# Altium footprint library 691 244 810 0xx.PcbLib: 3 footprints
Each footprint in its own frame and in the unit in brackets; x right, y up, seen from the top. Pads: shape width x height; smd on the part's side, far side on the other; paste and mask are expansions set on the pad; w line width, h text height; cw(c..) or ccw(c..) is an arc to the next point about the centre after c.
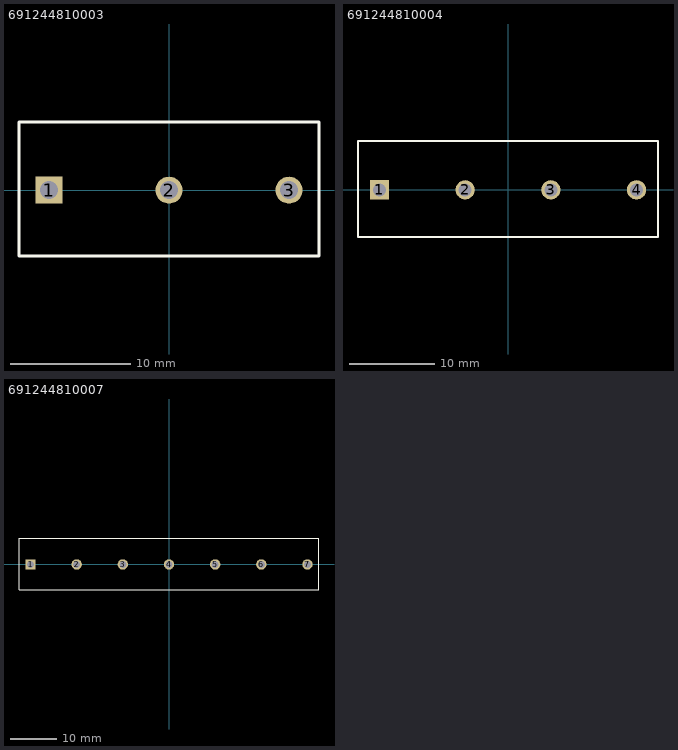
[diagram p0: the footprints below, top view; thin cyan lines are the x and y axes]

## 691244810003 [mm] "Serie 2448 - 10.00 mm _ 3 pins"
height 18
pads (3):
  rect 2.25x2.25 hole 1.5: 1(-10,0)
  round 2.25 hole 1.5: 2(0,0) 3(10,0)
Top Overlay:
  lines w0.254: -12.5,-5.5 12.5,-5.5 12.5,5.7 -12.5,5.7 -12.5,-5.5
3D body: height 18.1, standoff -3.9, extent -12.5,-5.6 12.5,5.6

## 691244810004 [mm] "Serie 2448 - 10.00 mm _ 4 pins"
height 18
pads (4):
  rect 2.25x2.25 hole 1.5: 1(-15,0)
  round 2.25 hole 1.5: 2(-5,0) 3(5,0) 4(15,0)
Top Overlay:
  lines w0.254: -17.5,-5.5 17.5,-5.5 17.5,5.7 -17.5,5.7 -17.5,-5.5
3D body: height 18.1, standoff -3.9, extent -17.4,-5.6 17.6,5.6

## 691244810007 [mm] "Serie 2448 - 10.00 mm _ 7 pins"
height 18
pads (7):
  rect 2.25x2.25 hole 1.5: 1(-30,0)
  round 2.25 hole 1.5: 2(-20,0) 3(-10,0) 4(0,0) 5(10,0) 6(20,0) 7(30,0)
Top Overlay:
  lines w0.254: -32.5,-5.5 -32.5,5.7 32.5,5.7 32.5,-5.5 -32.5,-5.5